# EAGLE library part MAX3075 (library HyTechDevices)
3.3 V RS-485/RS-422 Transceivers Datasheet <https://www.analog.com/media/en/technical-documentation/data-sheets/max3070e-max3079e.pdf>
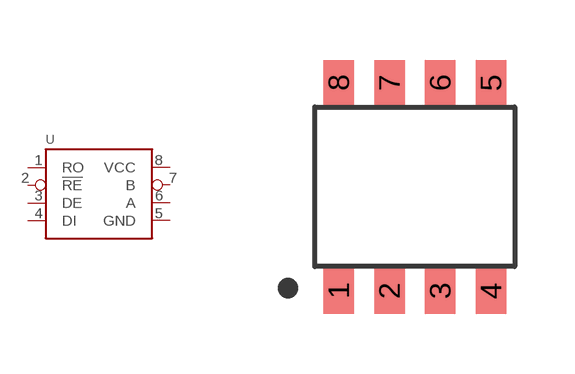
[diagram p81: symbol with the pads of SOIC-08(NARROW,0.15"); footprint SOIC-08(NARROW,0.15")]

Designator prefix U

## MAX3075 (DKPN: MAX3075EESA+-ND; MANUFACTURER: Analog Devices Inc.; MOPN: 700-MAX3075EESA; MPN: MAX3075EESA+)  [SOIC-08(NARROW,0.15")]
1  RO  out
2  !RE  in
3  DE  in
4  DI  in
5  GND  pwr
6  A
7  B
8  VCC  pwr

## Footprint SOIC-08(NARROW,0.15") (pad centres in mm)
SOIC-8 Datasheet <https://www.analog.com/media/en/package-pcb-resources/package/pkg_pdf/ltc-legacy-soic/05081610_G_SO8.pdf>
smd 0.762 x 1.143: 1 -1.905,-2.603; 2 -0.635,-2.603; 3 0.635,-2.603; 4 1.905,-2.603; 5 1.905,2.603; 6 0.635,2.603; 7 -0.635,2.603; 8 -1.905,2.603